# Altium schematic symbol library LTM8052EY#PBF.SchLib: 1 symbol
Pins are listed as number, name and electrical type; pins without a type are passive.

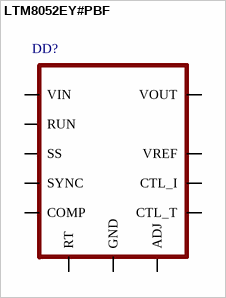
[diagram p0: symbol LTM8052EY#PBF]

## LTM8052EY#PBF
designator DD?
pins: ADJ, COMP, CTL_I, CTL_T, GND, RT, RUN, SS, SYNC, VIN, VOUT, VREF